# Altium footprint library ecg_PcbLib.PcbLib: 5 footprints
Each footprint in its own frame and in the unit in brackets; x right, y up, seen from the top. Pads: shape width x height; smd on the part's side, far side on the other; paste and mask are expansions set on the pad; w line width, h text height; cw(c..) or ccw(c..) is an arc to the next point about the centre after c.
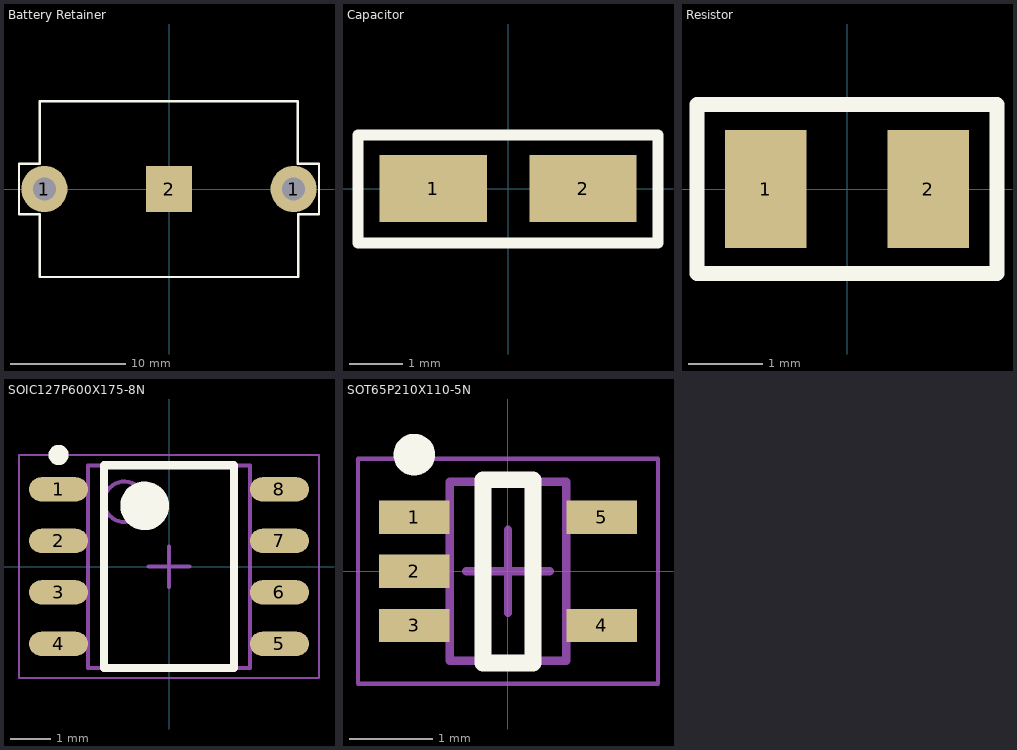
[diagram p0: the footprints below, top view; thin cyan lines are the x and y axes]

## Battery Retainer [mm]
pads (3):
  round 4 hole 2: 1(-10.8,0) 1(10.8,0)
  rect 3.96x3.96 smd: 2(0,0)
Top Overlay:
  lines w0.2: -11.2,-7.6 -11.2,-2.2 -13,-2.2 -13,2.2 -11.2,2.2 -11.2,7.6 ; -11.18,-7.62 11.18,-7.62 11.2,-7.6 11.2,-2.2 13,-2.2 13,2.2 11.16,2.2 11.16,7.6 ; -11.18,7.62 -11.2,7.6 ; 11.18,7.62 11.16,7.6 ; -11.2,7.6 11.16,7.6
3D body "BK-913.STEP": height 4.27, standoff -2.79, extent -11.175,-7.671 11.175,7.62

## Capacitor [mm]
pads (2):
  rect 2x1.25 smd: 1(-1.397,0) 2(1.397,0)
Top Overlay:
  lines w0.2: -2.8,-1.016 -2.8,1 2.794,1 2.794,-1.016 -2.8,-1.016
3D body "C0805C222K5RACTU.step": height 0.89, standoff 0.01, extent -1.1,-0.7 1.1,0.75

## Resistor [mm]
pads (2):
  rect 1.1x1.6 smd: 1(-1.1,0) 2(1.1,0)
Top Overlay:
  lines w0.2: -2.032,-1.143 2.032,-1.143 2.032,1.143 -2.032,1.143 -2.032,-1.143
3D body "CircuitWorks-RESISTOR 0805.step": height 0.47, standoff 0.01, extent -1,-0.625 1,0.635

## SOIC127P600X175-8N [mm] "SOIC, 8-Leads, Body 4.90x3.90mm, Pitch 1.27mm, IPC Medium Density"
height 1.75
pads (8):
  oval 1.45x0.6 smd: 1(-2.725,1.905) 2(-2.725,0.635) 3(-2.725,-0.635) 4(-2.725,-1.905) 5(2.725,-1.905) 6(2.725,-0.635) 7(2.725,0.635) 8(2.725,1.905)
Top Overlay:
  circle w0.6: c-0.6,1.5 r0.3
  circle w0.25: c-2.725,2.755 r0.125
  lines w0.2: -1.6,-2.5 1.6,-2.5 1.6,2.5 -1.6,2.5 -1.6,-2.5
Mechanical 13:
  circle w0.1: c-1.1,1.6 r0.5
  lines w0.1: -2,-2.5 2,-2.5 2,2.5 -2,2.5 -2,-2.5
Mechanical 15:
  lines w0.05: -3.7,-2.75 3.7,-2.75 3.7,2.75 -3.7,2.75 -3.7,-2.75
  lines w0.1: -0.5,0 0.5,0 ; 0,-0.5 0,0.5
3D body: height 1.75, standoff 0.1, extent -2,-2.5 2,2.5

## SOT65P210X110-5N [mm] "SOT23, 5-Leads, Body 2.00x2.10mm, Pitch 0.65mm, IPC Medium Density"
height 1.1
pads (5):
  rect 0.85x0.4 smd: 1(-1.125,0.65) 2(-1.125,0) 3(-1.125,-0.65) 4(1.125,-0.65) 5(1.125,0.65)
Top Overlay:
  circle w0.25: c-1.125,1.4 r0.125
  lines w0.2: -0.3,-1.1 -0.3,1.1 0.3,1.1 0.3,-1.1 -0.3,-1.1
Mechanical 13:
  lines w0.1: -0.7,-1.075 0.7,-1.075 0.7,1.075 -0.7,1.075 -0.7,-1.075
Mechanical 15:
  lines w0.05: -1.8,-1.35 1.8,-1.35 1.8,1.35 -1.8,1.35 -1.8,-1.35
  lines w0.1: -0.5,0 0.5,0 ; 0,-0.5 0,0.5
3D body: height 1.1, standoff 0, extent -0.7,-1.075 0.7,1.075